# EAGLE library part USB1030-GF-P-B-B (library USB1030-GF-P-B-B)
USB Connectors USB B Skt, Top TH, R/A, GF, Wth kinked shell stake, tray Source: Datasheet <https://gct.co/files/drawings/usb1030.pdf?v=6f3e53a4-19ab-41a0-8ac3-960e4d6fce65>
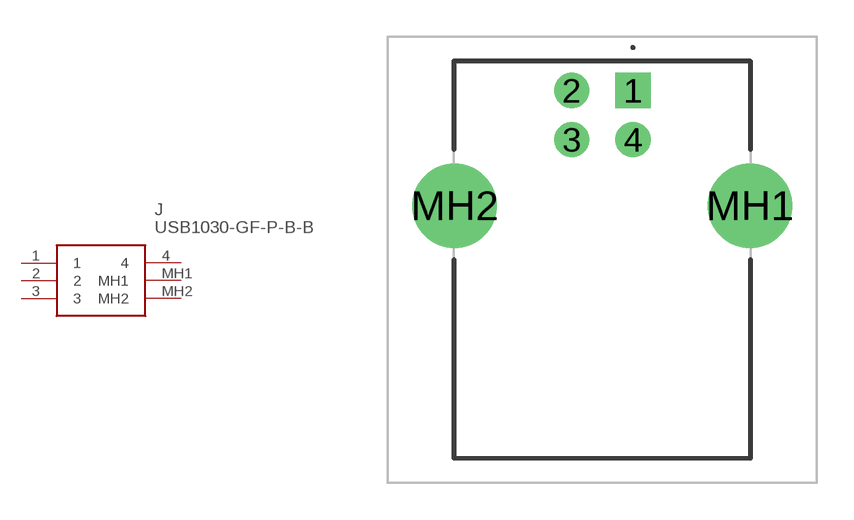
[diagram p0: symbol with the pads of USB1030GFPBB; footprint USB1030GFPBB]

Designator prefix J

## USB1030-GF-P-B-B (Description: USB Connectors USB B Skt, Top TH, R/A, GF, Wth kinked shell stake, tray; Height: 11.2mm; Manufacturer_Name: GCT (GLOBAL CONNECTOR TECHNOLOGY); Manufacturer_Part_Number: USB1030-GF-P-B-B; Mouser_Part_Number: 640-USB1030-GF-P-B-B; Mouser_Price-Stock: https://www.mouser.co.uk/ProductDetail/GCT/USB1030-GF-P-B-B?qs=KUoIvG%2F9Ila4yhPpaOZhHA%3D%3D)  [USB1030GFPBB]
1  1
2  2
3  3
4  4
MH1  MH1
MH2  MH2

## Footprint USB1030GFPBB (pad centres in mm)
USB1030-GF-P-B-B-3
drill 0.92 pad 1.431 square: 1 0,0
drill 0.92 pad 1.431: 2 -2.5,0; 3 -2.5,-2; 4 0,-2
drill 2.3 pad 3.45: MH1 4.77,-4.71; MH2 -7.27,-4.71